# Altium footprint library N1202_LCD_module.PcbLib: 5 footprints
Each footprint in its own frame and in the unit in brackets; x right, y up, seen from the top. Pads: shape width x height; smd on the part's side, far side on the other; paste and mask are expansions set on the pad; w line width, h text height; cw(c..) or ccw(c..) is an arc to the next point about the centre after c.
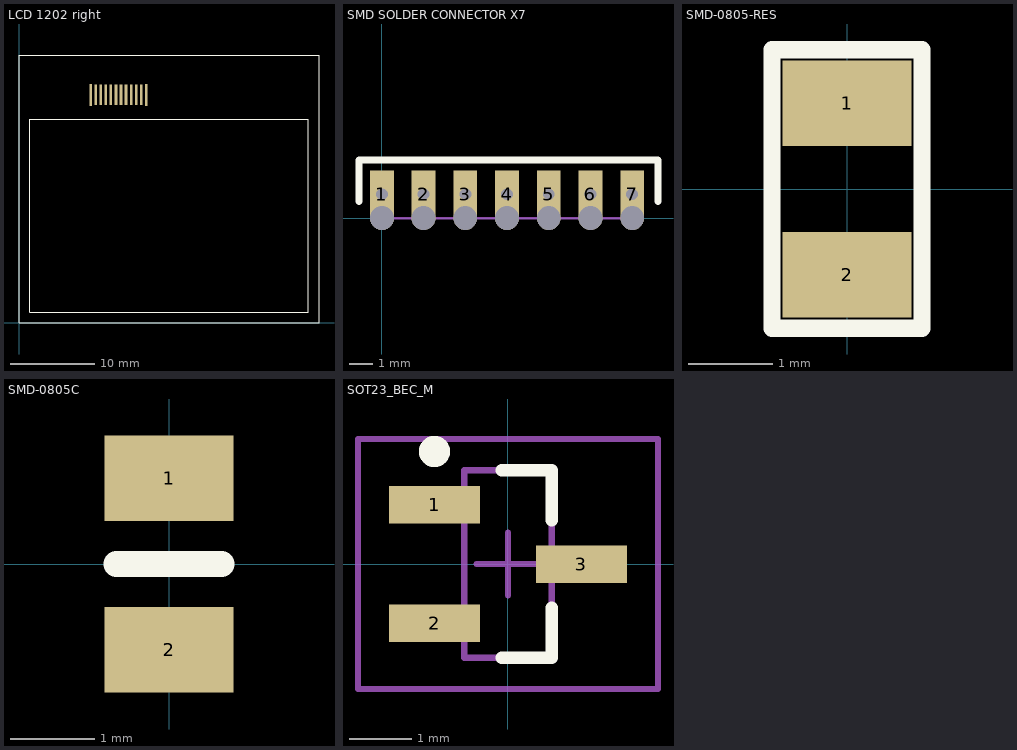
[diagram p0: the footprints below, top view; thin cyan lines are the x and y axes]

## LCD 1202 right [mm]
pads (12):
  rect 0.32x2.6 smd: 0(8.49,27.032) 11(15.09,27.032)
  rect 0.32x2.4 smd: 1(9.09,27.032) 2(9.69,27.032) 3(10.29,27.032) 4(10.89,27.032) 5(11.49,27.032) 6(12.09,27.032) 7(12.69,27.032) 8(13.29,27.032) 9(13.89,27.032) 10(14.49,27.032)
Top Overlay:
  lines w0.127: 0,-0.005 35.56,-0.005 35.56,31.745 0,31.745 0,-0.005 ; 1.27,1.265 34.29,1.265 34.29,24.125 1.27,24.125 1.27,1.265
3D body "LCD.STEP": height 3, standoff 0, extent -0.001,-0.006 35.559,31.719

## SMD SOLDER CONNECTOR X7 [mm]
pads (7):
  rect 1x2 hole 0.5: 1(0,1) 2(1.75,1) 3(3.5,1) 4(5.25,1) 5(7,1) 6(8.75,1) 7(10.5,1)
via 3.5,0 diameter 1 hole 1
via 10.5,0 diameter 1 hole 1
via 1.75,0 diameter 1 hole 1
via 0,0 diameter 1 hole 1
via 8.75,0 diameter 1 hole 1
via 7,0 diameter 1 hole 1
via 5.25,0 diameter 1 hole 1
Top Overlay:
  lines w0.3: -0.965,0.7 -0.965,2.438 2.362,2.438 11.582,2.438 11.582,0.7
Mechanical 15:
  lines w0.1: 0,0 10.5,0
  text "PCB edge" at 3.607,-1.118 h1

## SMD-0805-RES [mil]
pads (2):
  rect 60x40 smd: 1(0,40) 2(0,-40)
Top Overlay:
  lines w8: -35,-65 35,-65 35,65 -35,65 -35,-65
3D body "SW3dPS-0805 SMD Resistor.STEP": height 30.79, standoff 0, extent -23.6,-39.36 25.6,39.38

## SMD-0805C [mil]
pads (2):
  rect 60x40 smd: 1(0,40) 2(0,-40)
Top Overlay:
  lines w12: -24.6,0.01 24.6,0.01
3D body "capacitor 0805.step": height 35.43, standoff 0, extent -24.6,-39.36 24.6,39.38

## SOT23_BEC_M [mm]
pads (3):
  rect 1.45x0.6 smd: 1(-1.175,0.95) 2(-1.175,-0.95) 3(1.175,0)
Top Overlay:
  circle w0.25: c-1.175,1.8 r0.125
  lines w0.2: -0.1,-1.5 0.7,-1.5 0.7,-0.7 ; -0.1,1.5 0.7,1.5 0.7,0.7
Mechanical 13:
  lines w0.1: -0.7,-1.5 0.7,-1.5 0.7,1.5 -0.7,1.5 -0.7,-1.5
Mechanical 15:
  lines w0.1: -0.5,0 0.5,0 ; 0,-0.5 0,0.5 ; -2.4,-2 2.4,-2 2.4,2 -2.4,2 -2.4,-2
3D body "User Library-N-MOS_BSS123_SOT23.STEP": height 1, standoff 0, extent -1.225,-1.45 1.075,1.45